# Altium footprint library PcbLib.PcbLib: 42 footprints (part 2 of 3)
Each footprint in its own frame and in the unit in brackets; x right, y up, seen from the top. Pads: shape width x height; smd on the part's side, far side on the other; paste and mask are expansions set on the pad; w line width, h text height; cw(c..) or ccw(c..) is an arc to the next point about the centre after c.
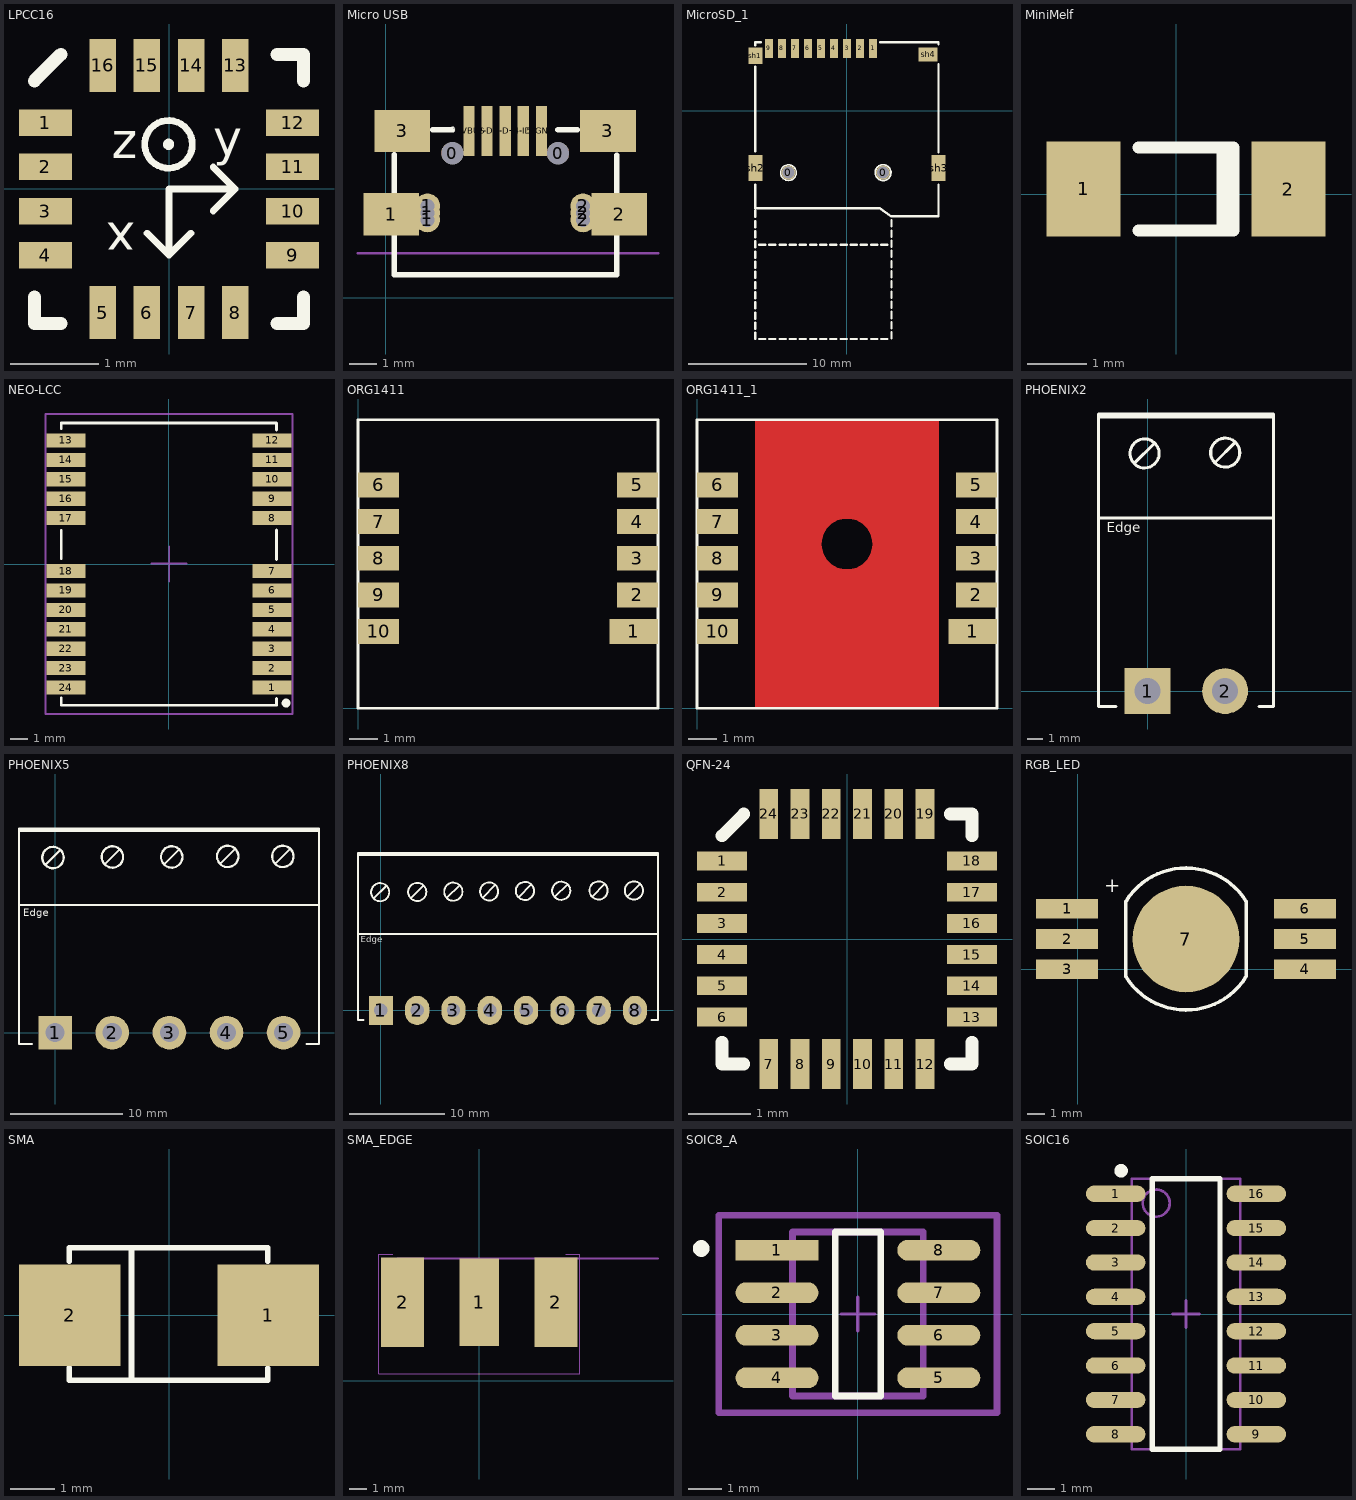
[diagram p1: the footprints below, top view; thin cyan lines are the x and y axes]

## LPCC16 [mm]
pads (16):
  rect 0.6x0.3 smd: 1(-1.4,0.75) 2(-1.4,0.25) 3(-1.4,-0.25) 4(-1.4,-0.75) 9(1.4,-0.75) 10(1.4,-0.25) 11(1.4,0.25) 12(1.4,0.75)
  rect 0.3x0.6 smd: 5(-0.75,-1.4) 6(-0.25,-1.4) 7(0.25,-1.4) 8(0.75,-1.4) 13(0.75,1.4) 14(0.25,1.4) 15(-0.25,1.4) 16(-0.75,1.4)
Top Overlay:
  circle w0.076: c-0.005,0.506 r0.27
  circle w0.076: c-0.005,0.506 r0.025
  lines w0.076: -0.25,-0.5 0,-0.75 ; 0.25,-0.5 0,-0.75 ; 0.5,-0.25 0.75,0 ; 0.5,0.25 0.75,0 ; 0,-0.75 0,0 0.75,0
  lines w0.15: -1.525,-1.225 -1.525,-1.525 -1.225,-1.525 ; -1.525,1.225 -1.225,1.525 ; 1.225,-1.525 1.525,-1.525 1.525,-1.225 ; 1.225,1.525 1.525,1.525 1.525,1.225
  text "z" at -0.65,0.35 h0.41
  text "x" at -0.381,-0.381 h0.41
  text "y" at 0.5,0.375 h0.41

## Micro USB [mm] "Micro USB B type plug"
pads (17):
  round 0.8 hole 0.8: 0(2.4,5.2) 0(6.2,5.2)
  rect 2x1.524 smd: 1(0.2,3) 2(8.4,3) 3(0.6,6) 3(8,6)
  round 0.9 hole 0.5: 1(1.5,2.8) 1(1.5,3.05) 1(1.5,3.3) 2(7.1,2.8) 2(7.1,3.05) 2(7.1,3.3)
  rect 0.4x1.8 smd: 1-VBUS(3,6) 2-D-(3.65,6) 3-D+(4.3,6) 4-ID(4.95,6) 5-GND(5.6,6)
Top Overlay:
  lines w0.2: 0.308,5.14 0.308,0.818 8.321,0.818 8.321,5.13 ; 1.69,6.05 2.41,6.051 ; 6.2,6.05 6.89,6.05
Mechanical 1:
  lines w0.1: -1,1.6 9.8,1.6
3D body "microusb.STEP": height 2.77, standoff -0.8, extent 0.3,0.25 8.3,5.85

## MicroSD_1 [mm] "altium designer (M.Hariri)"
pads (15):
  round 1.2 hole 1: 0(-4.95,-5.25) 0(3.05,-5.25)
  rect 0.7x1.6 smd: 1(2.2,5.25) 2(1.1,5.25) 3(0,5.25) 4(-1.1,5.25) 5(-2.2,5.25) 6(-3.3,5.25) 7(-4.4,5.25) 8(-5.5,5.25) 9(-6.6,5.25)
  rect 1.2x1.4 smd: sh1(-7.75,4.65)
  rect 1.2x2.2 smd: sh2(-7.75,-4.85) sh3(7.75,-4.85)
  rect 1.6x1.2 smd: sh4(6.85,4.75)
Top Overlay:
  lines w0.15: -4.297,-5.141 ccw(c-4.95,-5.25) -4.295,-5.151 ; 3.714,-5.187 ccw(c3.05,-5.25) 3.717,-5.261
  lines w0.2: -7.77,-19.32 -7.77,-18.8 ; -7.77,-18.46 -7.77,-17.94 ; -7.77,-17.6 -7.77,-17.08 ; -7.77,-16.74 -7.77,-16.22 ; -7.77,-15.88 -7.77,-15.36 ; -7.77,-15.02 -7.77,-14.5 ; -7.77,-14.16 -7.77,-13.64 ; -7.77,-13.3 -7.77,-12.78 ; -7.77,-12.44 -7.77,-11.92 ; -7.77,-11.58 -7.77,-11.06 ; -7.77,-10.72 -7.77,-10.2 ; -7.77,-9.86 -7.77,-9.34 ; -7.77,-8.98 -7.77,-8.46 ; -7.76,-6.26 -7.76,-8.25 2.75,-8.25 3.76,-8.95 7.74,-8.95 7.74,-6.25 ; -7.76,-3.45 -7.76,3.72 ; -7.76,5.52 -7.76,5.77 -7.28,5.77 ; -7.43,-19.32 -6.91,-19.32 ; -7.43,-11.35 -6.91,-11.35 ; -6.57,-19.32 -6.05,-19.32 ; -6.57,-11.35 -6.05,-11.35 ; -5.71,-19.32 -5.19,-19.32 ; -5.71,-11.35 -5.19,-11.35 ; -4.85,-19.32 -4.33,-19.32 ; -4.85,-11.35 -4.33,-11.35 ; -3.99,-19.32 -3.47,-19.32 ; -3.99,-11.35 -3.47,-11.35 ; -3.13,-19.32 -2.61,-19.32 ; -3.13,-11.35 -2.61,-11.35 ; -2.27,-19.32 -1.75,-19.32 ; -2.27,-11.35 -1.75,-11.35 ; -1.41,-19.32 -0.89,-19.32 ; -1.41,-11.35 -0.89,-11.35 ; -0.55,-19.32 -0.03,-19.32 ; -0.55,-11.35 -0.03,-11.35 ; 0.31,-19.32 0.83,-19.32 ; 0.31,-11.35 0.83,-11.35 ; 1.17,-19.32 1.69,-19.32 ; 1.17,-11.35 1.69,-11.35 ; 2.03,-19.32 2.55,-19.32 ; 2.03,-11.35 2.55,-11.35 ; 2.82,5.77 7.74,5.77 7.74,5.59 ; 2.89,-19.32 3.41,-19.32 ; 2.89,-11.35 3.41,-11.35 ; 3.76,-19.27 3.76,-18.75 ; 3.76,-18.41 3.76,-17.89 ; 3.76,-17.55 3.76,-17.03 ; 3.76,-16.69 3.76,-16.17 ; 3.76,-15.83 3.76,-15.31 ; 3.76,-14.97 3.76,-14.45 ; 3.76,-14.11 3.76,-13.59 ; 3.76,-13.25 3.76,-12.73 ; 3.76,-12.39 3.76,-11.87 ; 3.76,-11.53 3.76,-11.01 ; 3.76,-10.67 3.76,-10.15 ; 3.76,-9.81 3.76,-9.29 ; 7.74,-3.53 7.74,3.9

## MiniMelf [mm] "Metal electrode leadless face (MELF)"
pads (2):
  rect 1.25x1.6 smd: 1(-1.565,0.09) 2(1.885,0.09)
Top Overlay:
  lines w0.2: -0.64,-0.61 0.96,-0.61 0.96,0.79 -0.64,0.79 ; 0.77,-0.61 0.77,0.79
3D body "User Library-Diode MELF.STEP": height 1.55, standoff 0.05, extent -1.644,-0.664 1.856,0.836

## NEO-LCC [mm] "Ublox NEO-M8 LCC"
pads (24):
  rect 2.2x0.8 smd paste-0.1: 1(5.842,-7) 2(5.842,-5.9) 3(5.842,-4.8) 4(5.842,-3.7) 5(5.842,-2.6) 6(5.842,-1.5) 7(5.842,-0.4) 8(5.842,2.6) 9(5.842,3.7) 10(5.842,4.8) 11(5.842,5.9) 12(5.842,7) 13(-5.842,7) 14(-5.842,5.9) 15(-5.842,4.8) 16(-5.842,3.7) 17(-5.842,2.6) 18(-5.842,-0.4) 19(-5.842,-1.5) 20(-5.842,-2.6) 21(-5.842,-3.7) 22(-5.842,-4.8) 23(-5.842,-5.9) 24(-5.842,-7)
Top Overlay:
  circle w0.38: c6.636,-7.879 r0.058
  lines w0.16: -6.109,-7.598 -6.109,-8 6.096,-8 6.096,-7.616 ; -6.109,7.659 -6.109,7.996 6.09,7.996 6.09,7.592 ; -6.102,0.299 -6.102,1.893 ; 6.096,0.255 6.096,1.919
Mechanical 15:
  lines w0.1: -1,0.024 0.02,0.024 ; 0.02,-1 0.02,0.024 ; 0.02,1 0.02,0.024 ; 1,0.024 0.02,0.024 ; -7,-8.5 -7,8.5 7,8.5 7,-8.5 -7,-8.5
3D body "NEO (STEP-AP214)_B.STEP": height 2.28, standoff -0.05, extent -6.104,-8 6.096,8

## ORG1411 [mm]
pads (10):
  rect 1.676x0.864 smd: 1(9.56,2.66)
  rect 1.422x0.864 smd: 2(9.687,3.93) 3(9.687,5.2) 4(9.687,6.47) 5(9.687,7.74) 6(0.709,7.74) 7(0.709,6.47) 8(0.709,5.2) 9(0.709,3.93) 10(0.709,2.66)
Top Overlay:
  lines w0.1: 0,0 10.4,0 10.4,10 0,10 0,0

## ORG1411_1 [mm]
pads (10):
  rect 1.676x0.864 smd: 1(9.556,2.664)
  rect 1.422x0.864 smd: 2(9.683,3.934) 3(9.683,5.204) 4(9.683,6.474) 5(9.683,7.744) 6(0.705,7.744) 7(0.705,6.474) 8(0.705,5.204) 9(0.705,3.934) 10(0.705,2.664)
Top Layer:
  region: 8.37,5.697 6.084,5.697 6.077,5.581 6.017,5.357 5.9,5.156 5.736,4.992 5.535,4.876 5.311,4.816 5.079,4.816 4.855,4.876 4.654,4.992 4.49,5.156 4.374,5.357 4.314,5.581 4.306,5.697 2.02,5.697 2.02,0.009 8.37,0.009
  region: 2.02,5.697 4.306,5.697 4.314,5.813 4.374,6.037 4.49,6.238 4.654,6.402 4.855,6.518 5.079,6.578 5.311,6.578 5.535,6.518 5.736,6.402 5.9,6.238 6.017,6.037 6.077,5.813 6.084,5.697 8.37,5.697 8.37,10.001 2.02,10.001
Top Overlay:
  lines w0.1: -0.004,0.004 10.396,0.004 10.396,10.004 -0.004,10.004 -0.004,0.004

## PHOENIX2 [mm]
pads (2):
  rect 3x3 hole 1.7 unplated: 1(0,0)
  round 3 hole 1.7 unplated: 2(5.08,0)
Top Overlay:
  circle w0.203: c-0.197,15.577 r0.952
  circle w0.203: c5.086,15.627 r0.952
  lines w0.203: -3.22,11.354 8.255,11.354 ; -3.22,17.958 8.255,17.958 ; -2.083,-1.016 -3.22,-1.016 -3.22,18.161 8.255,18.161 8.255,-1.016 7.29,-1.016 ; -0.87,14.929 0.464,16.262 ; 4.413,14.98 5.747,16.313
  text "Edge" at -2.667,10.414 h0.64

## PHOENIX5 [mm]
pads (5):
  rect 3x3 hole 1.7 unplated: 1(-0.001,-0.001)
  round 3 hole 1.7 unplated: 2(5.079,-0.001) 3(10.159,-0.001) 4(15.239,-0.001) 5(20.319,-0.001)
Top Overlay:
  circle w0.203: c20.249,15.677 r0.952
  circle w0.203: c15.347,15.677 r0.952
  circle w0.203: c5.085,15.626 r0.952
  circle w0.203: c-0.198,15.576 r0.952
  circle w0.203: c10.369,15.626 r0.952
  lines w0.203: -3.221,11.353 23.469,11.353 ; -3.221,17.957 23.469,17.957 ; -2.084,-1.017 -3.221,-1.017 -3.221,18.16 23.469,18.16 23.469,-1.017 22.351,-1.017 ; -0.871,14.928 0.463,16.261 ; 4.412,14.979 5.746,16.312 ; 9.695,14.979 11.029,16.312 ; 14.674,15.029 16.007,16.363 ; 19.576,15.029 20.91,16.363
  text "Edge" at -2.844,10.375 h0.64

## PHOENIX8 [mm]
pads (8):
  rect 2.54x3.048 hole 1.4: 1(0,-0.001)
  oval 2.54x3.048 hole 1.4: 2(3.81,-0.001) 3(7.62,-0.001) 4(11.43,-0.001) 5(15.24,-0.001) 6(19.05,-0.001) 7(22.86,-0.001) 8(26.67,-0.001)
Top Overlay:
  circle w0.203: c11.36,12.477 r0.952
  circle w0.203: c-0.07,12.401 r0.952
  circle w0.203: c3.816,12.426 r0.952
  circle w0.203: c7.601,12.451 r0.952
  circle w0.203: c15.119,12.528 r0.952
  circle w0.203: c18.929,12.553 r0.952
  circle w0.203: c22.841,12.578 r0.952
  circle w0.203: c26.549,12.578 r0.952
  lines w0.203: -2.4,16.306 29.083,16.306 ; -1.8,-1.001 -2.4,-1.001 -2.4,7.999 ; -0.743,11.753 0.591,13.086 ; 3.143,11.778 4.477,13.112 ; 6.928,11.804 8.261,13.137 ; 10.687,11.829 12.021,13.163 ; 14.446,11.88 15.78,13.213 ; 18.256,11.905 19.59,13.239 ; 22.168,11.931 23.501,13.264 ; 25.876,11.931 27.21,13.264 ; 28.423,-1.001 29.083,-1.001 29.083,16.499 -2.4,16.499 -2.4,7.999 ; 29.083,7.999 -2.4,7.999
  text "Edge" at -2.134,7.136 h0.64

## QFN-24 [mm]
pads (24):
  rect 0.8x0.3 smd: 1(-2,1.25) 2(-2,0.75) 3(-2,0.25) 4(-2,-0.25) 5(-2,-0.75) 6(-2,-1.25) 13(2,-1.25) 14(2,-0.75) 15(2,-0.25) 16(2,0.25) 17(2,0.75) 18(2,1.25)
  rect 0.3x0.8 smd: 7(-1.25,-2) 8(-0.75,-2) 9(-0.25,-2) 10(0.25,-2) 11(0.75,-2) 12(1.25,-2) 19(1.25,2) 20(0.75,2) 21(0.25,2) 22(-0.25,2) 23(-0.75,2) 24(-1.25,2)
Top Overlay:
  lines w0.203: -2,-1.65 -2,-2 -1.65,-2 ; -2,1.65 -1.65,2 ; 1.65,-2 2,-2 2,-1.65 ; 1.65,2 2,2 2,1.65

## RGB_LED [mm] "3W RGB LED"
height 6.1
pads (7):
  rect 3.5x1.1 smd: 1(-0.6,3.4) 2(-0.6,1.7) 3(-0.6,0) 4(12.8,0) 5(12.8,1.7) 6(12.8,3.4)
  round 6 smd: 7(6.1,1.7)
Top Layer:
  text "+" at 1.5,4.325 h0.8
Top Overlay:
  lines w0.2: 2.7,-0.375 2.7,3.825 ; 2.707,-0.418 ccw(c6.1,1.7) 9.466,-0.462 ; 2.734,3.862 cw(c6.1,1.7) 9.493,3.818 ; 9.5,-0.4 9.5,3.8
  text "+" at 1.5,4.325 h0.8
3D body "led.STEP": height 5.2, standoff 0, extent -1.25,-2.3 13.45,5.7

## SMA [mm] "SMA (DO-214AC)"
height 2
pads (2):
  rect 2.3x2.3 smd: 1(2.25,-0.001) 2(-2.25,-0.001)
Top Overlay:
  lines w0.127: -2.263,-1.199 -2.263,-1.48 2.238,-1.48 2.238,-1.209 ; -2.263,1.216 -2.263,1.526 2.238,1.526 2.238,1.216 ; -0.851,-1.461 -0.851,1.439
3D body "DO-214AC SMA.STEP": height 2.42, standoff 0.02, extent -2.607,-1.297 2.593,1.303

## SMA_EDGE [mm]
pads (3):
  rect 2.286x5.08 all layers, no hole: 1(0,4.551)
  rect 2.5x5.18 all layers, no hole: 2(-4.445,4.551) 2(4.445,4.551)
Mechanical 13:
  lines w0.127: -4.763,7.091 10.375,7.091
  text "PCB EDGE" at 6.064,7.261 h0.61
Mechanical 15:
  lines w0.05: -5.012,7.341 -5.838,7.341 -5.838,0.389 5.838,0.389 5.838,7.341 5.012,7.341
3D body "step_temp.STEP": height 5.49, standoff -4.72, extent -5.102,-18.817 5.102,6.761

## SOIC8_A [mm] "8-Lead SOIC"
pads (8):
  rect 2.474x0.622 smd paste+0 mask+0: 1(-2.416,1.905)
  rrect100% 2.474x0.622 smd paste+0 mask+0: 2(-2.416,0.635) 3(-2.416,-0.635) 4(-2.416,-1.905) 5(2.416,-1.905) 6(2.416,-0.635) 7(2.416,0.635) 8(2.416,1.905)
Top Overlay:
  circle w0.25: c-4.678,1.955 r0.125
  lines w0.2: -0.679,-2.45 -0.679,2.45 0.679,2.45 0.679,-2.45 -0.679,-2.45
Mechanical 5:
  lines w0.2: -4.153,-2.95 -4.153,2.95 4.153,2.95 4.153,-2.95 -4.153,-2.95
Mechanical 13:
  lines w0.2: -1.95,-2.45 -1.95,2.45 1.95,2.45 1.95,-2.45 -1.95,-2.45
Mechanical 15:
  lines w0.2: -4.153,-2.95 -4.153,2.95 4.153,2.95 4.153,-2.95 -4.153,-2.95
Mechanical 16:
  lines w0.1: -0.5,0 0.5,0 ; 0,-0.5 0,0.5
3D body "IC_Analog_Devices_AD629ARZ_eec.STEP": height 0.25, standoff 0, extent -4.153,-2.95 4.153,2.95

## SOIC16 [mm]
pads (16):
  oval 2.2x0.6 smd: 1(-2.6,4.445) 2(-2.6,3.175) 3(-2.6,1.905) 4(-2.6,0.635) 5(-2.6,-0.635) 6(-2.6,-1.905) 7(-2.6,-3.175) 8(-2.6,-4.445) 9(2.6,-4.445) 10(2.6,-3.175) 11(2.6,-1.905) 12(2.6,-0.635) 13(2.6,0.635) 14(2.6,1.905) 15(2.6,3.175) 16(2.6,4.445)
Top Overlay:
  circle w0.25: c-2.4,5.295 r0.125
  lines w0.2: -1.245,-5 -1.245,5 1.257,5 1.257,-5 -1.245,-5
Mechanical 13:
  circle w0.1: c-1.1,4.1 r0.5
  lines w0.1: -2,-5 -2,5 2,5 2,-5 -2,-5
Mechanical 15:
  lines w0.1: -0.5,0 0.5,0 ; 0,-0.5 0,0.5
3D body "SOIC16.STEP": height 1.73, standoff -0.03, extent -3.099,-5.08 3.099,5.08